# EAGLE library part DAC80501 (library ICs)
16-Bit 1-LSB INL, Voltage-Output DAC With Precision Internal Reference
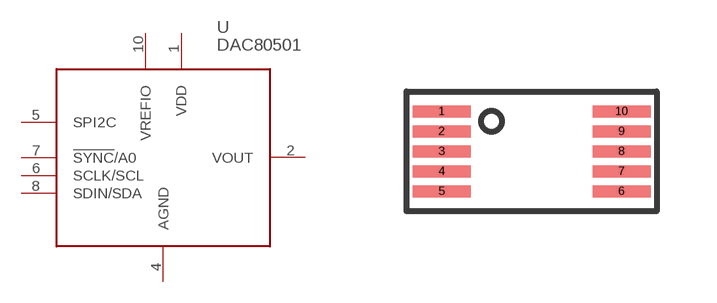
[diagram p253: symbol with the pads of VSSOP10; footprint VSSOP10]

Designator prefix U

## DAC80501 (DIGIKEY: 296-DAC80501ZDGSRCT-ND; HEIGHT: 1; PRICE_PER: 4.40; VALUE: DAC80501)  [VSSOP10]
1  VDD
2  VOUT
4  AGND
5  SPI2C
6  SCLK/SCL
7  !SYNC!/A0
8  SDIN/SDA
10  VREFIO

## Footprint VSSOP10 (pad centres in mm)
smd 1.45 x 0.3: 1 -2.25,1; 2 -2.25,0.5; 3 -2.25,0; 4 -2.25,-0.5; 5 -2.25,-1; 6 2.25,-1; 7 2.25,-0.5; 8 2.25,0; 9 2.25,0.5; 10 2.25,1